# Altium schematic symbol library TPS51397A.SchLib: 1 symbol
Pins are listed as number, name and electrical type; pins without a type are passive.

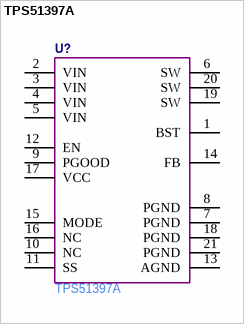
[diagram p0: symbol TPS51397A]

## TPS51397A
designator U?  Manufacturer Part Number: TPS51397A  (hidden comment: *)
pins: 1 BST, 2 VIN, 3 VIN, 4 VIN, 5 VIN, 6 SW, 7 PGND, 8 PGND, 9 PGOOD, 10 NC, 11 SS, 12 EN, 13 AGND, 14 FB, 15 MODE, 16 NC, 17 VCC, 18 PGND, 19 SW, 20 SW, 21 PGND